# EAGLE library part MICROBUILDER_GYRO_FXAS21002C (library Adafruit FXOS8700 FXAS21002 9 DoF Breakout)
FXAS21002C - 3 Axis Gyroscope - 250/500/1000/2000dps Range: 250/500/1000/2000 dps Data Rate: 2.5-800Hz Resolution: 16-bits
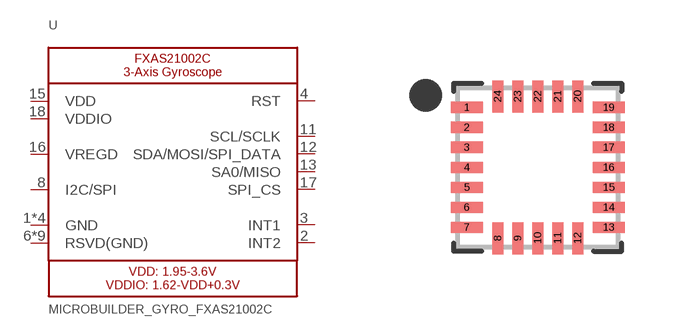
[diagram p1: symbol with the pads of MICROBUILDER_QFN24_4MM_FREESCALE_7X5; footprint MICROBUILDER_QFN24_4MM_FREESCALE_7X5]

Designator prefix U

## MICROBUILDER_GYRO_FXAS21002C  [MICROBUILDER_QFN24_4MM_FREESCALE_7X5]
1  GND
2  INT2
3  INT1
4  RST
5  GND
6  RSVD(GND)
7  RSVD(GND)
8  I2C/SPI
9  RSVD(GND)
10  RSVD(GND)
11  SCL/SCLK
12  SDA/MOSI/SPI_DATA
13  SA0/MISO
14  GND
15  VDD
16  VREGD
17  SPI_CS
18  VDDIO
19  GND
20  RSVD(GND)
21  RSVD(GND)
22  RSVD(GND)
23  RSVD(GND)
24  RSVD(GND)

## Footprint MICROBUILDER_QFN24_4MM_FREESCALE_7X5 (pad centres in mm)
smd 0.8 x 0.275: 1 -1.775,1.5; 2 -1.775,1; 3 -1.775,0.5; 4 -1.775,0; 5 -1.775,-0.5; 6 -1.775,-1; 7 -1.775,-1.5; 13 1.775,-1.5; 14 1.775,-1; 15 1.775,-0.5; 16 1.775,0; 17 1.775,0.5; 18 1.775,1; 19 1.775,1.5
smd 0.275 x 0.8: 8 -1,-1.775; 9 -0.5,-1.775; 10 0,-1.775; 11 0.5,-1.775; 12 1,-1.775; 20 1,1.775; 21 0.5,1.775; 22 0,1.775; 23 -0.5,1.775; 24 -1,1.775